# Altium footprint library Nixie-imp-pcb-lib.PcbLib: 6 footprints
Each footprint in its own frame and in the unit in brackets; x right, y up, seen from the top. Pads: shape width x height; smd on the part's side, far side on the other; paste and mask are expansions set on the pad; w line width, h text height; cw(c..) or ccw(c..) is an arc to the next point about the centre after c.
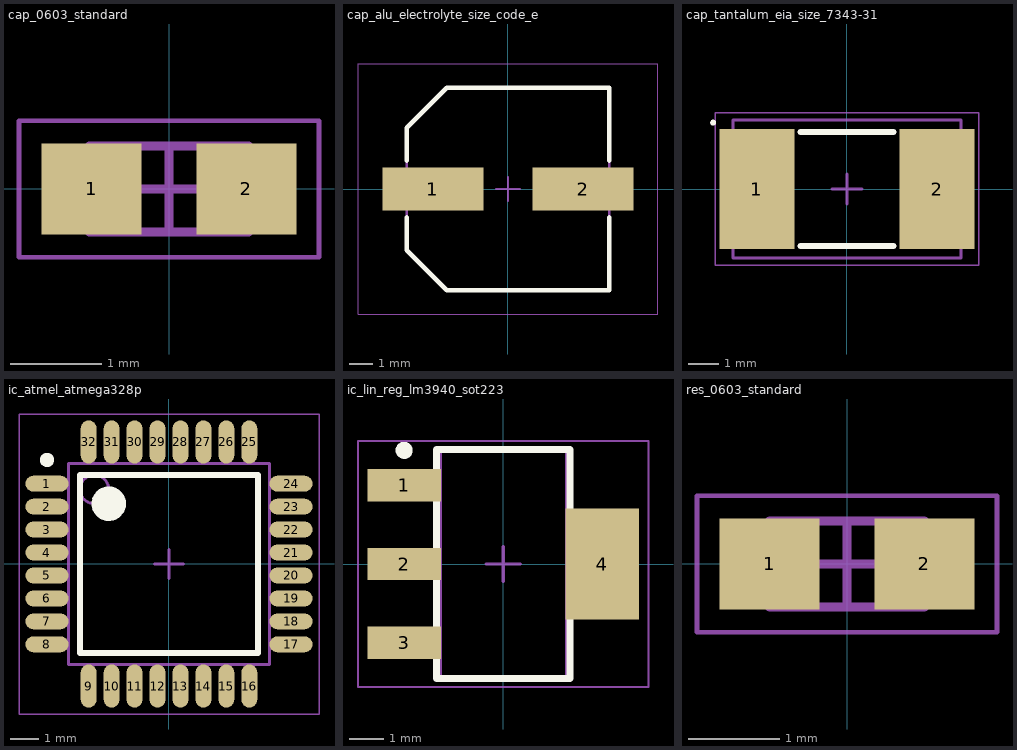
[diagram p0: the footprints below, top view; thin cyan lines are the x and y axes]

## cap_0603_standard [mm] "Generic 0603 chip capacitor (IPC-SM-782)"
height 0.85
pads (2):
  rect 1.1x1 smd: 1(-0.85,0) 2(0.85,0)
Mechanical 13:
  lines w0.1: -0.875,-0.475 0.875,-0.475 0.875,0.475 -0.875,0.475 -0.875,-0.475
Mechanical 15:
  lines w0.05: -1.65,-0.75 1.65,-0.75 1.65,0.75 -1.65,0.75 -1.65,-0.75
  lines w0.1: -0.475,0 0.475,0 ; 0,-0.475 0,0.475
3D body "cap_0603_standard.step": height 0.85, standoff 0, extent -0.875,-0.475 0.875,0.475

## cap_alu_electrolyte_size_code_e [mm] "Aluminum Electrolytic Capacitor, Body 8,30x8,30x8,00mm, IPC Low Density"
height 8
pads (2):
  rect 4.25x1.8 smd: 1(-3.15,0) 2(3.15,0)
Top Overlay:
  lines w0.2: -4.25,-1.2 -4.25,-2.575 -2.575,-4.25 4.25,-4.25 4.25,-1.2 ; -4.25,1.2 -4.25,2.575 -2.575,4.25 4.25,4.25 4.25,1.2
Mechanical 13:
  lines w0.1: -4.25,-2.575 -4.25,2.575 -2.575,4.25 4.25,4.25 4.25,-4.25 -2.575,-4.25 -4.25,-2.575
Mechanical 15:
  lines w0.05: -6.3,-5.25 6.3,-5.25 6.3,5.25 -6.3,5.25 -6.3,-5.25
  lines w0.1: -0.5,0 0.5,0 ; 0,-0.5 0,0.5
3D body "CAPAE9083X80M.step": height 8, standoff 0, extent -4.5,-4.25 4.5,4.25

## cap_tantalum_eia_size_7343-31 [mm] "Generic tantalum capacitor, EIA size code 7343-31"
height 3.1
pads (2):
  rect 2.5x4 smd: 1(-3,0) 2(3,0)
Top Overlay:
  circle w0.1: c-4.462,2.212 r0.05
  lines w0.2: -1.55,-1.9 1.55,-1.9 ; -1.55,1.9 1.55,1.9
Mechanical 13:
  lines w0.1: -3.8,-2.3 3.8,-2.3 3.8,2.3 -3.8,2.3 -3.8,-2.3
Mechanical 15:
  lines w0.05: -4.4,-2.55 4.4,-2.55 4.4,2.55 -4.4,2.55 -4.4,-2.55
  lines w0.1: -0.5,0 0.5,0 ; 0,-0.5 0,0.5
3D body "cap_tantalum_eia_size_7343-31.step": height 3.1, standoff 0, extent -3.8,-2.3 3.8,2.3

## ic_atmel_atmega328p [mm] "TQFP, 32-Leads, Body 7,00x7,00mm, Pitch 0,80mm, IPC Medium Density"
height 1.2
pads (32):
  oval 1.5x0.55 smd: 1(-4.25,2.8) 2(-4.25,2) 3(-4.25,1.2) 4(-4.25,0.4) 5(-4.25,-0.4) 6(-4.25,-1.2) 7(-4.25,-2) 8(-4.25,-2.8) 17(4.25,-2.8) 18(4.25,-2) 19(4.25,-1.2) 20(4.25,-0.4) 21(4.25,0.4) 22(4.25,1.2) 23(4.25,2) 24(4.25,2.8)
  oval 0.55x1.5 smd: 9(-2.8,-4.25) 10(-2,-4.25) 11(-1.2,-4.25) 12(-0.4,-4.25) 13(0.4,-4.25) 14(1.2,-4.25) 15(2,-4.25) 16(2.8,-4.25) 25(2.8,4.25) 26(2,4.25) 27(1.2,4.25) 28(0.4,4.25) 29(-0.4,4.25) 30(-1.2,4.25) 31(-2,4.25) 32(-2.8,4.25)
Top Overlay:
  circle w0.6: c-2.1,2.1 r0.3
  circle w0.25: c-4.25,3.625 r0.125
  lines w0.2: -3.1,-3.1 3.1,-3.1 3.1,3.1 -3.1,3.1 -3.1,-3.1
Mechanical 13:
  circle w0.1: c-2.6,2.6 r0.5
  lines w0.1: -3.5,-3.5 3.5,-3.5 3.5,3.5 -3.5,3.5 -3.5,-3.5
Mechanical 15:
  lines w0.05: -5.225,-5.225 5.225,-5.225 5.225,5.225 -5.225,5.225 -5.225,-5.225
  lines w0.1: -0.5,0 0.5,0 ; 0,-0.5 0,0.5
3D body "ic_atmel_atmega328p.step": height 1.2, standoff 0, extent -4.5,-4.5 4.5,4.5

## ic_lin_reg_lm3940_sot223 [mm] "LM3940 linear voltage regulator, SOT223"
height 1.8
pads (4):
  rect 2.15x0.95 smd: 1(-2.9,2.3) 2(-2.9,0) 3(-2.9,-2.3)
  rect 2.15x3.25 smd: 4(2.9,0)
Top Overlay:
  circle w0.25: c-2.9,3.325 r0.125
  lines w0.2: -1.95,-3.35 -1.95,3.35 1.95,3.35 1.95,-3.35 -1.95,-3.35
Mechanical 13:
  lines w0.1: -1.85,-3.35 -1.85,3.35 1.85,3.35 1.85,-3.35 -1.85,-3.35
Mechanical 15:
  lines w0.05: -4.25,-3.6 -4.25,3.6 4.25,3.6 4.25,-3.6 -4.25,-3.6
  lines w0.1: -0.5,0 0.5,0 ; 0,-0.5 0,0.5
3D body "ic_lin_reg_lm3940_sot223.step": height 1.8, standoff 0.02, extent -3.46,-3.35 3.46,3.35

## res_0603_standard [mm] "Generic 0603 chip resistor (IPC-SM-782)"
height 0.6
pads (2):
  rect 1.1x1 smd: 1(-0.85,0) 2(0.85,0)
Mechanical 13:
  lines w0.1: -0.85,-0.475 -0.85,0.475 0.85,0.475 0.85,-0.475 -0.85,-0.475
Mechanical 15:
  lines w0.05: -1.65,-0.75 -1.65,0.75 1.65,0.75 1.65,-0.75 -1.65,-0.75
  lines w0.1: -0.475,0 0.475,0 ; 0,-0.475 0,0.475
3D body "res_0603_standard.step": height 0.6, standoff 0, extent -0.85,-0.475 0.85,0.475